# EAGLE library part 48025-1190 (library Common-Parts-Library-Eagle)
Modular Jack, Right Angle, 10/100, with Integrated Magnetic and LED, 8/8, without EMI Fingers, Lead free
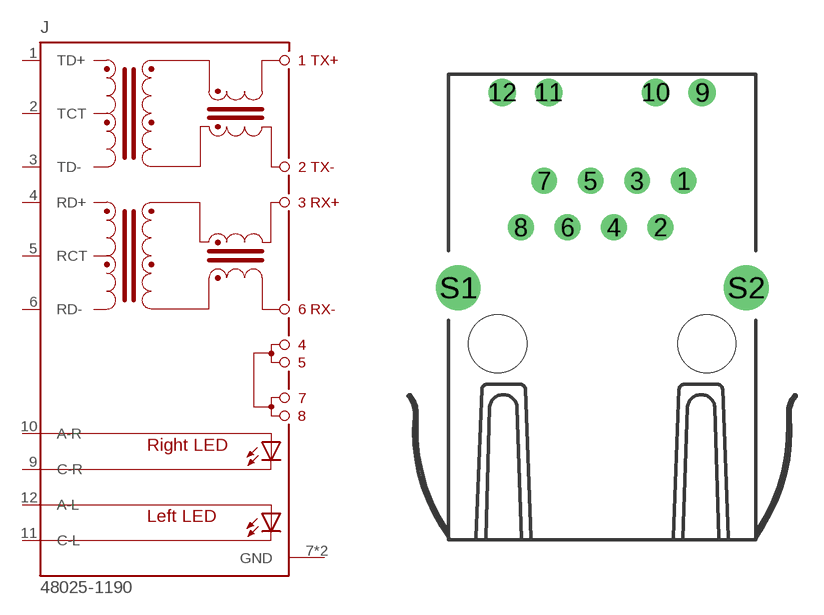
[diagram p16: symbol with the pads of MOLEX_48025-1190; footprint MOLEX_48025-1190]

Designator prefix J

## 48025-1190 (MANUFACTURER: Molex)  [MOLEX_48025-1190]
1  TD+  in
2  TCT  in
3  TD-  in
4  RD+  in
5  RCT  in
6  RD-  in
7  GND  pas
8  GND  pas
9  C-R  pas
10  A-R  pas
11  C-L  pas
12  A-L  pas

## Footprint MOLEX_48025-1190 (pad centres in mm)
drill 0.9 pad 1.3: 1 4.445,6.35; 2 3.175,3.81; 3 1.905,6.35; 4 0.635,3.81; 5 -0.635,6.35; 6 -1.905,3.81; 7 -3.175,6.35; 8 -4.445,3.81
drill 1 pad 1.422: 9 5.465,11.18; 10 2.925,11.18; 11 -2.925,11.18; 12 -5.465,11.18
drill 1.63: S1 -7.87,0.51; S2 7.87,0.51
hole 3.18 at 5.715,-2.54
hole 3.18 at -5.715,-2.54